# Altium footprint library SAMTEC_TSS-108-01-T-D.PcbLib: 1 footprints
Each footprint in its own frame and in the unit in brackets; x right, y up, seen from the top. Pads: shape width x height; smd on the part's side, far side on the other; paste and mask are expansions set on the pad; w line width, h text height; cw(c..) or ccw(c..) is an arc to the next point about the centre after c.
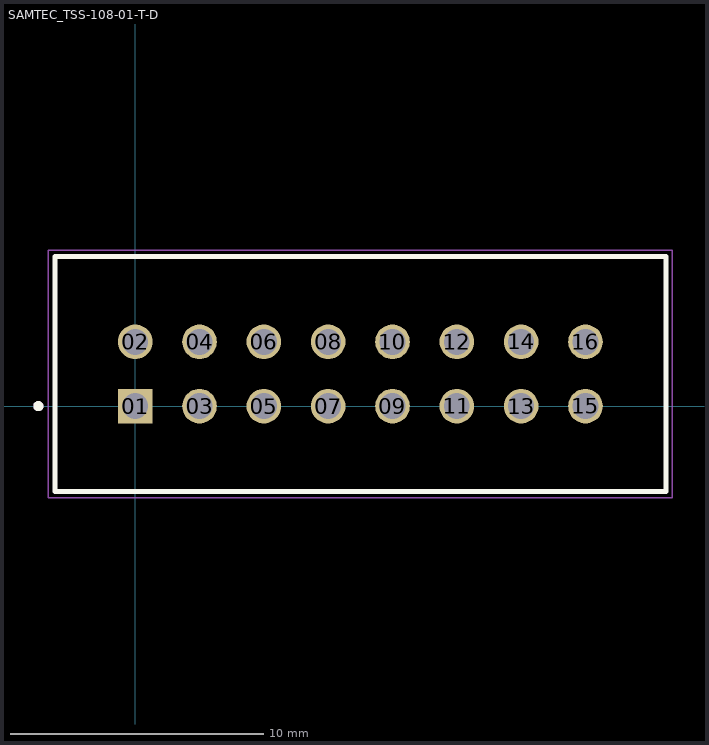
[diagram p0: the footprint, top view; thin cyan lines are the x and y axes]

## SAMTEC_TSS-108-01-T-D [mm]
pads (16):
  rect 1.37x1.37 hole 1.02: 01(0,0)
  round 1.37 hole 1.02: 02(0,2.54) 03(2.54,0) 04(2.54,2.54) 05(5.08,0) 06(5.08,2.54) 07(7.62,0) 08(7.62,2.54) 09(10.16,0) 10(10.16,2.54) 11(12.7,0) 12(12.7,2.54) 13(15.24,0) 14(15.24,2.54) 15(17.78,0) 16(17.78,2.54)
Top Overlay:
  circle w0.2: c-3.825,0 r0.1
  lines w0.2: -3.175,-3.365 20.955,-3.365 20.955,5.905 -3.175,5.905 -3.175,-3.365
Mechanical 13:
  circle w0.2: c-3.825,0 r0.1
  lines w0.1: -3.175,-3.365 20.955,-3.365 20.955,5.905 -3.175,5.905 -3.175,-3.365
Mechanical 15:
  lines w0.05: -3.425,-3.615 21.205,-3.615 21.205,6.155 -3.425,6.155 -3.425,-3.615
3D body "52601-S16-4LF--3DModel-STEP-510211.STEP": height 9.53, standoff -3.3, extent -4.953,-3.048 22.733,5.715